# EAGLE library part TVS_DIODE_ARRAY_4 (library discrete)
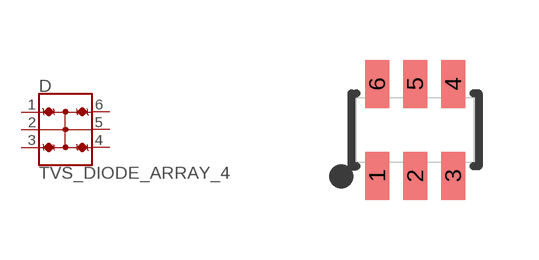
[diagram p11: symbol with the pads of SOT23-6L; footprint SOT23-6L]

Designator prefix D

## TVS_DIODE_ARRAY_4_ESDA6V1BC6 (PROD_ID: DIO-14095)  [SOT23-6L]
1  1
2  2
3  3
4  4
5  5
6  6

## Footprint SOT23-6L (pad centres in mm)
smd 0.6 x 1.2: 1 -0.95,-1.15; 2 0,-1.15; 3 0.95,-1.15; 4 0.95,1.15; 5 0,1.15; 6 -0.95,1.15